# EAGLE library part FT260Q-T (library FT260Q_T)
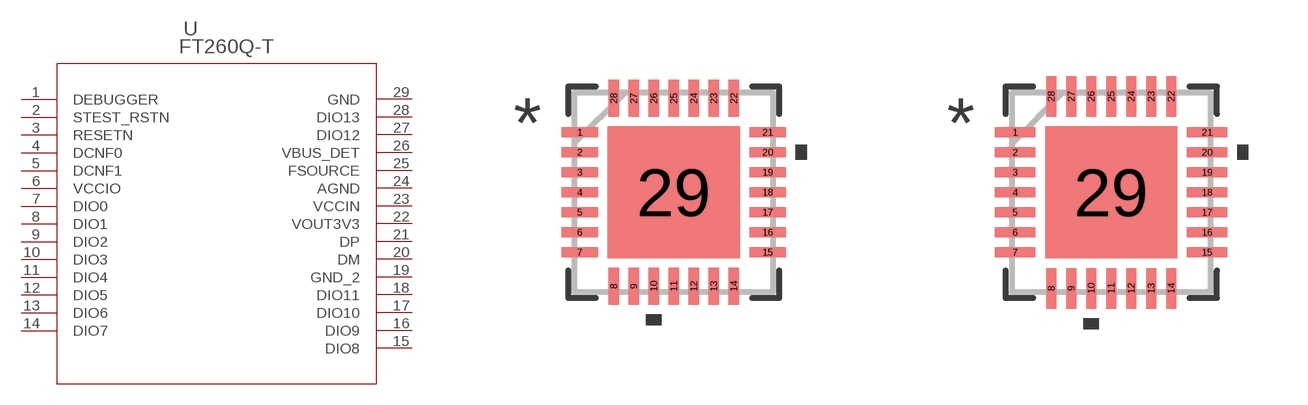
[diagram p0: symbol with the pads of WQFN-28_FTD; footprints WQFN-28_FTD, WQFN-28_FTD-M]

Designator prefix U

## FT260Q-T (COPYRIGHT: Copyright (C) 2024 Ultra Librarian. All rights reserved.; MANUFACTURER_PART_NUMBER: FT260Q-T; MFR_NAME: FTDI, Future Technology Devices International Ltd)  [WQFN-28_FTD]
1  DEBUGGER
2  STEST_RSTN  in
3  RESETN  in
4  DCNF0  in
5  DCNF1  in
6  VCCIO  pwr
7  DIO0
8  DIO1
9  DIO2
10  DIO3
11  DIO4
12  DIO5
13  DIO6
14  DIO7
15  DIO8
16  DIO9
17  DIO10
18  DIO11
19  GND_2  pas
20  DM  pas
21  DP  pas
22  VOUT3V3  pwr
23  VCCIN  pwr
24  AGND  pas
25  FSOURCE  pwr
26  VBUS_DET  in
27  DIO12
28  DIO13
29  GND  pas

## FT260Q-TWQFN-28_FTD-M (COPYRIGHT: Copyright (C) 2024 Ultra Librarian. All rights reserved.; MANUFACTURER_PART_NUMBER: FT260Q-T; MFR_NAME: FTDI, Future Technology Devices International Ltd)  [WQFN-28_FTD-M]
Pads as for WQFN-28_FTD

## FT260Q-TWQFN-28_FTD-L (COPYRIGHT: Copyright (C) 2024 Ultra Librarian. All rights reserved.; MANUFACTURER_PART_NUMBER: FT260Q-T; MFR_NAME: FTDI, Future Technology Devices International Ltd)  [WQFN-28_FTD-L]
Pads as for WQFN-28_FTD

## Footprint WQFN-28_FTD (pad centres in mm)
smd 0.914 x 0.254: 1 -2.349,1.5; 2 -2.349,1; 3 -2.349,0.5; 4 -2.349,0; 5 -2.349,-0.5; 6 -2.349,-1; 7 -2.349,-1.5; 15 2.349,-1.5; 16 2.349,-1; 17 2.349,-0.5; 18 2.349,0; 19 2.349,0.5; 20 2.349,1; 21 2.349,1.5
smd 0.254 x 0.914: 8 -1.5,-2.349; 9 -1,-2.349; 10 -0.5,-2.349; 11 0,-2.349; 12 0.5,-2.349; 13 1,-2.349; 14 1.5,-2.349; 22 1.5,2.349; 23 1,2.349; 24 0.5,2.349; 25 0,2.349; 26 -0.5,2.349; 27 -1,2.349; 28 -1.5,2.349
smd 3.302 x 3.302: 29 0,0

## Footprint WQFN-28_FTD-M (pad centres in mm)
smd 1.016 x 0.254: 1 -2.4,1.5; 2 -2.4,1; 3 -2.4,0.5; 4 -2.4,0; 5 -2.4,-0.5; 6 -2.4,-1; 7 -2.4,-1.5; 15 2.4,-1.5; 16 2.4,-1; 17 2.4,-0.5; 18 2.4,0; 19 2.4,0.5; 20 2.4,1; 21 2.4,1.5
smd 0.254 x 1.016: 8 -1.5,-2.4; 9 -1,-2.4; 10 -0.5,-2.4; 11 0,-2.4; 12 0.5,-2.4; 13 1,-2.4; 14 1.5,-2.4; 22 1.5,2.4; 23 1,2.4; 24 0.5,2.4; 25 0,2.4; 26 -0.5,2.4; 27 -1,2.4; 28 -1.5,2.4
smd 3.302 x 3.302: 29 0,0

## Footprint WQFN-28_FTD-L (pad centres in mm)
smd 0.813 x 0.254: 1 -2.299,1.5; 2 -2.299,1; 3 -2.299,0.5; 4 -2.299,0; 5 -2.299,-0.5; 6 -2.299,-1; 7 -2.299,-1.5; 15 2.299,-1.5; 16 2.299,-1; 17 2.299,-0.5; 18 2.299,0; 19 2.299,0.5; 20 2.299,1; 21 2.299,1.5
smd 0.254 x 0.813: 8 -1.5,-2.299; 9 -1,-2.299; 10 -0.5,-2.299; 11 0,-2.299; 12 0.5,-2.299; 13 1,-2.299; 14 1.5,-2.299; 22 1.5,2.299; 23 1,2.299; 24 0.5,2.299; 25 0,2.299; 26 -0.5,2.299; 27 -1,2.299; 28 -1.5,2.299
smd 3.302 x 3.302: 29 0,0